# Altium footprint library PcbLib_tree_grain.PcbLib: 22 footprints (part 2 of 2)
Each footprint in its own frame and in the unit in brackets; x right, y up, seen from the top. Pads: shape width x height; smd on the part's side, far side on the other; paste and mask are expansions set on the pad; w line width, h text height; cw(c..) or ccw(c..) is an arc to the next point about the centre after c.
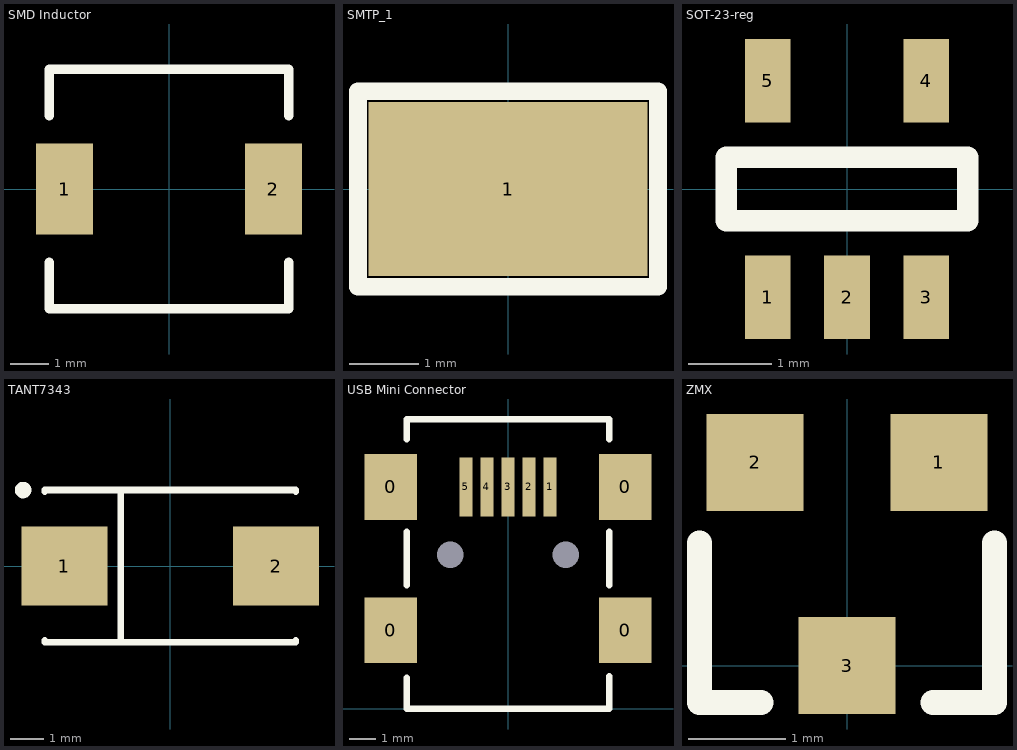
[diagram p1: the footprints below, top view; thin cyan lines are the x and y axes]

## SMD Inductor [mm]
height 2.5
pads (2):
  rect 1.5x2.4 smd: 1(-2.75,0) 2(2.75,0)
Top Overlay:
  lines w0.254: -3.15,-1.93 -3.15,-3.15 3.15,-3.15 3.15,-1.93 ; -3.15,1.93 -3.15,3.15 3.15,3.15 3.15,1.93

## SMTP_1 [mm] "Surface Mount Test point"
pads (1):
  rect 4x2.5 smd: 1(0,0)
Top Overlay:
  lines w0.254: 2.15,-1.4 -2.15,-1.4 -2.15,1.4 2.15,1.4 ; 2.15,-1.35 2.15,1.35

## SOT-23-reg [mm] "generic regulator footprint"
height 1.45
pads (5):
  rect 0.55x1 smd: 1(-0.95,-1.3) 2(0,-1.3) 3(0.95,-1.3) 4(0.95,1.3) 5(-0.95,1.3)
Top Overlay:
  lines w0.254: -1.45,-0.381 -1.45,0.381 1.45,0.381 1.45,-0.381 -1.45,-0.381

## TANT7343 [mm] "Capacitor, SM Tantalum; Body 7.3 x 4.3 mm (LxW typ)"
height 2.8
pads (2):
  rect 2.6x2.4 smd: 1(-3.2,0) 2(3.2,0)
Top Overlay:
  circle w0.25: c-4.45,2.3 r0.125
  lines w0.2: -3.8,-2.25 -3.8,-2.3 3.8,-2.3 3.8,-2.25 ; -3.8,2.25 -3.8,2.3 3.8,2.3 3.8,2.25 ; -1.5,-2.3 -1.5,2.3

## USB Mini Connector [mm]
height 4
pads (11):
  rect 2x2.5 smd: 0(-4.45,2.98) 0(-4.45,8.43) 0(4.45,2.98) 0(4.45,8.43)
  round 0 hole 1: 0(-2.2,5.85) 0(2.2,5.85)
  rect 0.5x2.25 smd: 1(1.6,8.43) 2(0.8,8.43) 3(0,8.43) 4(-0.8,8.43) 5(-1.6,8.43)
Top Overlay:
  lines w0.254: -3.85,1.183 -3.85,0 3.85,0 3.85,1.23 ; -3.85,4.699 -3.85,6.731 ; -3.85,10.247 -3.85,11 3.85,11 3.85,10.247 ; 3.85,4.699 3.85,6.731

## ZMX [mm] "SOT-23 package for the ZXM61N02F"
height 1.1
pads (3):
  rect 1x1 smd: 1(0.95,2.1) 2(-0.95,2.1) 3(0,0)
Top Overlay:
  lines w0.254: -1.524,1.27 -1.524,-0.381 -0.889,-0.381 ; 0.889,-0.381 1.524,-0.381 1.524,1.27